# EAGLE library part LSM6DSV80XTR (library LSM6DSV80XTR)
6-axis IMU (inertial measurement unit) with high-g accelerometer, embedded AI, and sensor fusion for wearables and sport trackers Source: Datasheet <https://www.st.com/resource/en/datasheet/lsm6dsv80x.pdf>
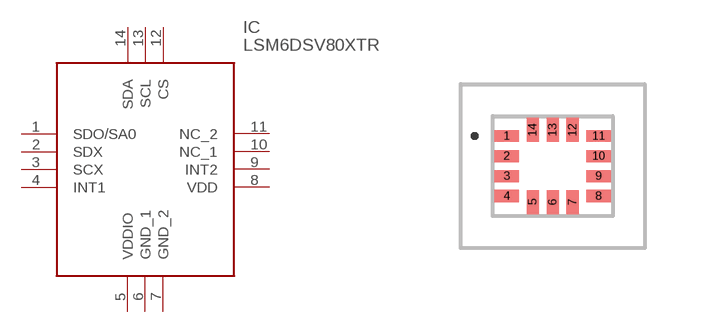
[diagram p0: symbol with the pads of LSM6DSV16BXTR; footprint LSM6DSV16BXTR]

Designator prefix IC

## LSM6DSV80XTR (Description: 6-axis IMU (inertial measurement unit) with high-g accelerometer, embedded AI, and sensor fusion for wearables and sport trackers; Height: 0.74mm; Manufacturer_Name: STMicroelectronics; Manufacturer_Part_Number: LSM6DSV80XTR)  [LSM6DSV16BXTR]
1  SDO/SA0
2  SDX
3  SCX
4  INT1
5  VDDIO
6  GND_1
7  GND_2
8  VDD
9  INT2
10  NC_1
11  NC_2
12  CS
13  SCL
14  SDA

## Footprint LSM6DSV16BXTR (pad centres in mm)
LGA-14L 2.5 x 3.0 x 0.74 mm XDM)
smd 0.6 x 0.3: 1 -1.15,0.75; 2 -1.15,0.25; 3 -1.15,-0.25; 4 -1.15,-0.75; 8 1.15,-0.75; 9 1.15,-0.25; 10 1.15,0.25; 11 1.15,0.75
smd 0.3 x 0.6: 5 -0.5,-0.9; 6 0,-0.9; 7 0.5,-0.9; 12 0.5,0.9; 13 0,0.9; 14 -0.5,0.9